# Altium footprint library OptoDevice.PcbLib: 103 footprints (part 7 of 7)
Each footprint in its own frame and in the unit in brackets; x right, y up, seen from the top. Pads: shape width x height; smd on the part's side, far side on the other; paste and mask are expansions set on the pad; w line width, h text height; cw(c..) or ccw(c..) is an arc to the next point about the centre after c.
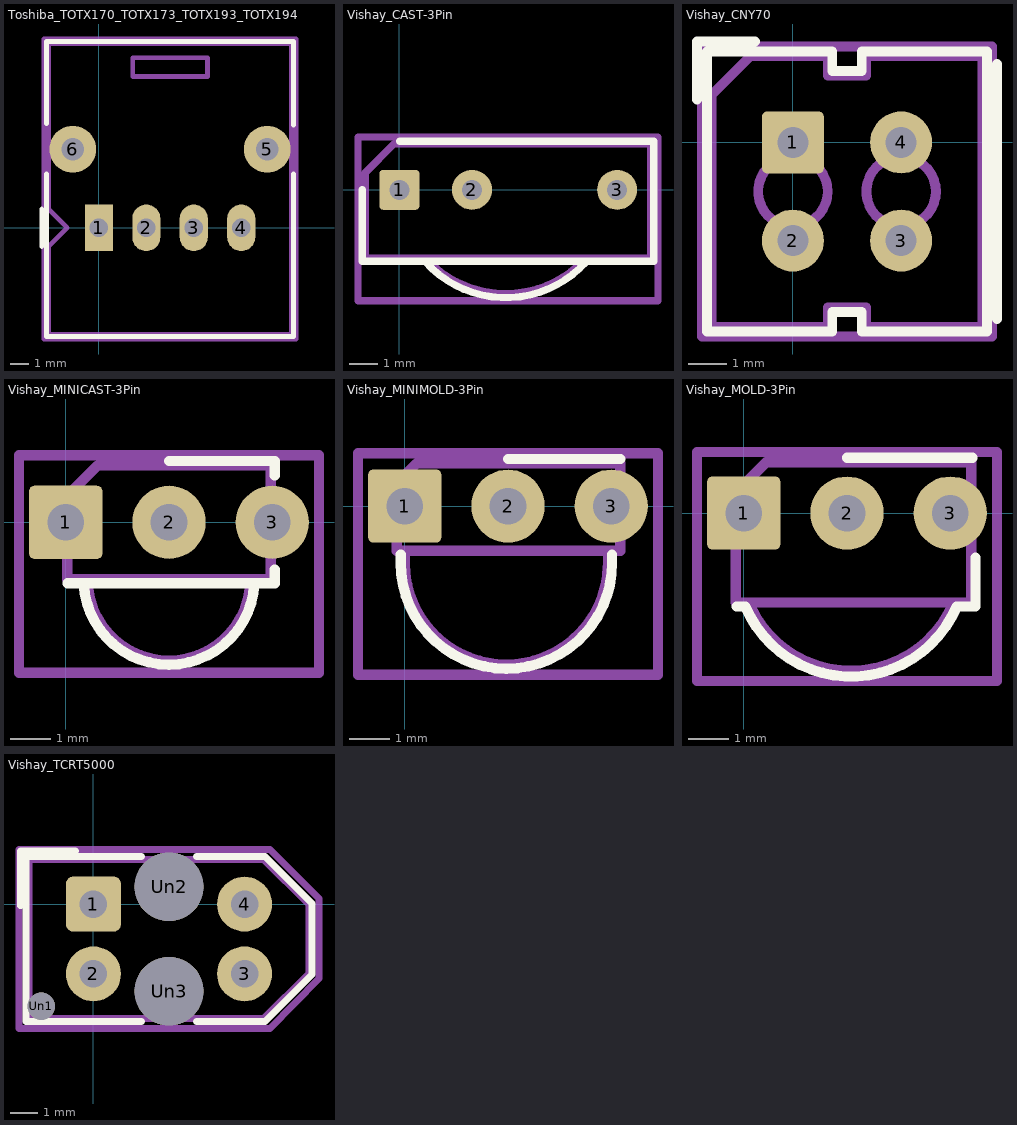
[diagram p6: the footprints below, top view; thin cyan lines are the x and y axes]

## Toshiba_TOTX170_TOTX173_TOTX193_TOTX194 [mm]
pads (6):
  rect 1.5x2.5 hole 1: 1(0,0)
  rrect100% 1.5x2.5 hole 1: 2(2.54,0) 3(5.08,0) 4(7.62,0)
  round 2.5 hole 1.2: 5(9.01,4.2) 6(-1.39,4.2)
F.SilkS:
  lines w0.254: -3.05,-1 -3.05,1 ; -2.8,2.89 -2.8,-5.81 10.42,-5.81 10.42,2.89 ; -2.8,5.56 -2.8,9.96 10.42,9.96 10.42,5.49
Top Assembly:
  lines w0.254: -2.69,-5.7 -2.69,-5.65 -2.69,-1 -1.69,0 -2.69,1 -2.69,9.85 10.31,9.85 10.31,-5.7 10.26,-5.7 -2.69,-5.7 ; 1.81,8.1 1.81,9.1 5.81,9.1 5.81,8.1 1.81,8.1
  text "'.Designator'" at -0.237,1.235 h1
Top Courtyard:
  lines w0.254: -2.94,-5.95 -2.94,10.1 10.56,10.1 10.56,-5.95 -2.94,-5.95
Top Designator:
  text ".Designator" at -3.863,1.567 h1.52

## Vishay_CAST-3Pin [mm]
pads (3):
  rrect18% 1.4x1.4 hole 0.7: 1(0,0)
  round 1.4 hole 0.7: 2(2.54,0) 3(7.62,0)
F.SilkS:
  lines w0.254: -1.3,0 -1.3,-2.5 0.9,-2.5 6.6,-2.5 ; 0,1.7 8.9,1.7 8.9,-2.5 6.5,-2.5 ; 0.894,-2.504 ccw(c3.72,0) 6.55,-2.5
Top Assembly:
  lines w0.254: 0.957,-2.436 ccw(c3.72,0.15) 6.47,-2.45 ; -1.2,-2.4 8.8,-2.4 8.8,1.6 -0.2,1.6 -1.2,0.6 -1.2,-2.4
  text "'.Designator'" at -0.247,-1.857 h1
Top Courtyard:
  lines w0.254: -1.45,-3.88 9.05,-3.88 9.05,1.85 -1.45,1.85 -1.45,-3.88
Top Designator:
  text ".Designator" at -3.818,-1.523 h1.52
3D body "Vishay_CAST-3Pin.step": height 15.5, standoff -5, extent -1.19,-4.3 8.81,1.6

## Vishay_CNY70 [mm]
pads (4):
  rrect16% 1.6x1.6 hole 0.8: 1(0,0)
  round 1.6 hole 0.8: 2(0,-2.54) 3(2.8,-2.54) 4(2.8,0)
F.SilkS:
  lines w0.254: -2.48,1.11 -2.48,2.61 -0.98,2.61 ; 5.28,-4.57 5.28,2.03 ; -2.22,-4.89 1.02,-4.89 1.02,-4.39 1.78,-4.39 1.78,-4.89 5.02,-4.89 5.02,2.35 1.78,2.35 1.78,1.85 1.02,1.85 1.02,2.35 -2.22,2.35 -2.22,-4.89
Top Assembly:
  lines w0.254: -2.1,-4.77 0.9,-4.77 0.9,-4.27 1.9,-4.27 1.9,-4.77 4.9,-4.77 4.9,2.23 1.9,2.23 1.9,1.73 0.9,1.73 0.9,2.23 -1.1,2.23 -2.1,1.23 -2.1,-4.77
  text "Marking side" at 5.007,-4.724 h0.8
  text "'.Designator'" at -2.547,-2.11 h1
Top Courtyard:
  lines w0.254: -2.35,-5.02 5.15,-5.02 5.15,2.48 -2.35,2.48 -2.35,-5.02
Top Designator:
  text ".Designator" at -6.262,-1.713 h1.52
Cmts.User:
  circle w0.254: c2.8,-1.27 r0.9
  circle w0.254: c0,-1.27 r0.9
  text "E" at -0.459,-1.92 h1
  text "D" at 2.317,-1.92 h1
3D body "Vishay_CNY70.step": height 6, standoff -6, extent -2.1,-4.77 4.91,2.23

## Vishay_MINICAST-3Pin [mm]
pads (3):
  rrect14% 1.8x1.8 hole 0.9: 1(0,0)
  round 1.8 hole 0.9: 2(2.54,0) 3(5.08,0)
F.SilkS:
  lines w0.254: 0.05,-1.5 5.14,-1.5 5.14,-1.16 ; 0.44,-1.502 ccw(c2.54,-1.4) 4.64,-1.5 ; 2.54,1.51 5.14,1.51 5.14,1.16
Top Assembly:
  lines w0.254: 0.54,-1.4 ccw(c2.54,-1.4) 4.54,-1.4 ; 0.04,-1.4 5.04,-1.4 5.04,1.4 0.79,1.4 0.04,0.65 0.04,-1.4
  text "'.Designator'" at -1.507,-0.84 h1
Top Courtyard:
  lines w0.254: -1.15,-3.7 6.23,-3.7 6.23,1.65 -1.15,1.65 -1.15,-3.7
Top Designator:
  text ".Designator" at -5.228,-1.533 h1.52
3D body "Vishay_MINICAST-3Pin.step": height 10.35, standoff -3, extent -0.425,-3.4 5.505,1.4

## Vishay_MINIMOLD-3Pin [mm]
pads (3):
  rrect14% 1.8x1.8 hole 0.9: 1(0,0)
  round 1.8 hole 0.9: 2(2.54,0) 3(5.08,0)
F.SilkS:
  lines w0.254: -0.1,-1.2 -0.1,-1.4 ccw(c2.5,-1.4) 5.1,-1.4 5.1,-1.2 ; 2.54,1.16 5.3,1.16
Top Assembly:
  lines w0.254: 0,-1.1 5,-1.1 ; 0,-1.1 0,-1.15 0,-1.4 ccw(c2.5,-1.4) 5,-1.4 5,-1.1 ; 0,-1.1 -0.2,-1.1 -0.2,0.55 0.3,1.05 5.3,1.05 5.3,-1.1 5,-1.1
  text "'.Designator'" at -1.537,-2.83 h1
Top Courtyard:
  lines w0.254: -1.15,-4.15 6.23,-4.15 6.23,1.3 -1.15,1.3 -1.15,-4.15
Top Designator:
  text ".Designator" at -5.258,-1.933 h1.52
3D body "Vishay_MINIMOLD-3Pin.step": height 9.75, standoff -3, extent -0.425,-3.875 5.505,1.125

## Vishay_MOLD-3Pin [mm]
pads (3):
  rrect14% 1.8x1.8 hole 0.9: 1(0,0)
  round 1.8 hole 0.9: 2(2.54,0) 3(5.08,0)
F.SilkS:
  lines w0.254: -0.18,-2.3 0.04,-2.3 ccw(c2.64,-1.2) 5.24,-2.3 5.7,-2.3 5.7,-1.1 ; 2.54,1.36 5.62,1.36
Top Assembly:
  lines w0.254: 0.15,-2.272 ccw(c2.64,-1.15) 5.14,-2.25 ; -0.2,-2.2 5.6,-2.2 5.6,1.25 0.55,1.25 -0.2,0.5 -0.2,-2.2
  text "'.Designator'" at -1.372,-2.156 h1
Top Courtyard:
  lines w0.254: -1.15,-4.13 6.23,-4.13 6.23,1.5 -1.15,1.5 -1.15,-4.13
Top Designator:
  text ".Designator" at -5.093,-1.823 h1.52
3D body "Vishay_MOLD-3Pin.step": height 10.34, standoff -3, extent -0.46,-4.05 5.54,1.55

## Vishay_TCRT5000 [mm]
pads (7):
  rrect25% 2x2 hole 1: 1(0,0)
  round 2 hole 1: 2(0,-2.54) 3(5.5,-2.54) 4(5.5,0)
  round 1 hole 1: Un1(-1.9,-3.72)
  round 2.5 hole 2.5: Un2(2.75,0.63) Un3(2.75,-3.17)
F.SilkS:
  lines w0.254: -2.66,-0.06 -2.66,1.94 -0.66,1.94 ; 1.75,-4.28 -2.46,-4.28 -2.46,1.74 1.75,1.74 ; 3.75,-4.28 6.24,-4.28 7.96,-2.56 7.96,0.025 6.245,1.74 3.75,1.74
Top Assembly:
  lines w0.254: -2.35,-4.17 -2.35,1.63 6.2,1.63 7.85,-0.02 7.85,-2.52 6.2,-4.17 -2.325,-4.17
  text "'.Designator'" at -1.297,-2.11 h1
Top Courtyard:
  lines w0.254: -2.71,-4.53 -2.71,1.99 6.42,1.99 8.21,0.2 8.21,-2.7 6.42,-4.53 -2.71,-4.53
Top Designator:
  text ".Designator" at -4.868,-1.778 h1.52
3D body "Vishay_TCRT5000.step": height 7, standoff -3.5, extent -2.35,-4.82 7.86,2.28